# Altium footprint library PN-Series.PcbLib: 1 footprints
Each footprint in its own frame and in the unit in brackets; x right, y up, seen from the top. Pads: shape width x height; smd on the part's side, far side on the other; paste and mask are expansions set on the pad; w line width, h text height; cw(c..) or ccw(c..) is an arc to the next point about the centre after c.
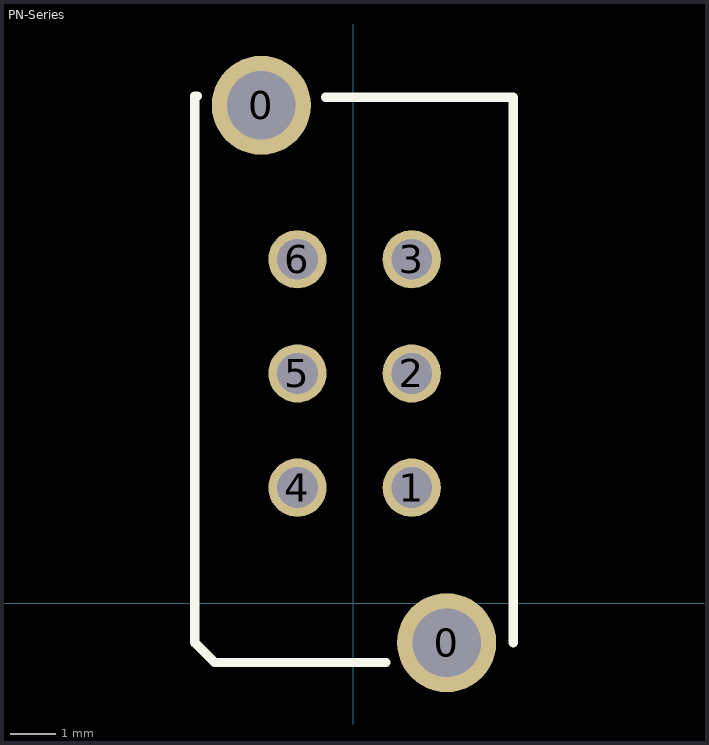
[diagram p0: the footprint, top view; thin cyan lines are the x and y axes]

## PN-Series [mil]
pads (8):
  round 85 hole 59: 0(-79,427) 0(80,-34)
  round 50 hole 35: 1(50,99) 2(50,197) 3(50,295) 4(-48,99) 5(-48,197) 6(-48,295)
Top Overlay:
  lines w8: -134,435 -136,435 -136,-34 -119,-51 28,-51 ; -24,434 137,434 137,-34
3D body: height 326.82, standoff -110.19, extent -133.71,-434.14 134,432